# EAGLE library part EXPHDR (library cpcfpga)
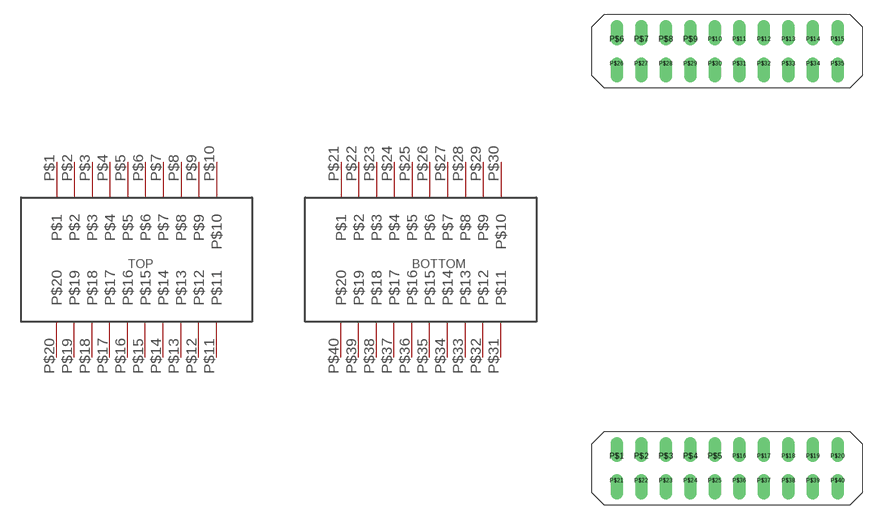
[diagram p3: symbol with the pads of EXPHDR; footprint EXPHDR]

Designator prefix -; gates G$1=EXPHDR_TOP G$2=EXPHDR_BOTTOM

## EXPHDR  [EXPHDR]
P$1  G$1:P$1
P$2  G$1:P$2
P$3  G$1:P$3
P$4  G$1:P$4
P$5  G$1:P$5
P$6  G$1:P$6
P$7  G$1:P$7
P$8  G$1:P$8
P$9  G$1:P$9
P$10  G$1:P$10
P$11  G$1:P$11
P$12  G$1:P$12
P$13  G$1:P$13
P$14  G$1:P$14
P$15  G$1:P$15
P$16  G$1:P$16
P$17  G$1:P$17
P$18  G$1:P$18
P$19  G$1:P$19
P$20  G$1:P$20
P$21  G$2:P$1
P$22  G$2:P$2
P$23  G$2:P$3
P$24  G$2:P$4
P$25  G$2:P$5
P$26  G$2:P$6
P$27  G$2:P$7
P$28  G$2:P$8
P$29  G$2:P$9
P$30  G$2:P$10
P$31  G$2:P$11
P$32  G$2:P$12
P$33  G$2:P$13
P$34  G$2:P$14
P$35  G$2:P$15
P$36  G$2:P$16
P$37  G$2:P$17
P$38  G$2:P$18
P$39  G$2:P$19
P$40  G$2:P$20

## Footprint EXPHDR (pad centres in mm)
drill 0.8 offset: P$1 -11.43,-20.32; P$2 -8.89,-20.32; P$3 -6.35,-20.32; P$4 -3.81,-20.32; P$5 -1.27,-20.32; P$6 -11.43,22.86; P$7 -8.89,22.86; P$8 -6.35,22.86; P$9 -3.81,22.86; P$10 -1.27,22.86; P$11 1.27,22.86; P$12 3.81,22.86; P$13 6.35,22.86; P$14 8.89,22.86; P$15 11.43,22.86; P$16 1.27,-20.32; P$17 3.81,-20.32; P$18 6.35,-20.32; P$19 8.89,-20.32; P$20 11.43,-20.32; P$21 -11.43,-22.86; P$22 -8.89,-22.86; P$23 -6.35,-22.86; P$24 -3.81,-22.86; P$25 -1.27,-22.86; P$26 -11.43,20.32; P$27 -8.89,20.32; P$28 -6.35,20.32; P$29 -3.81,20.32; P$30 -1.27,20.32; P$31 1.27,20.32; P$32 3.81,20.32; P$33 6.35,20.32; P$34 8.89,20.32; P$35 11.43,20.32; P$36 1.27,-22.86; P$37 3.81,-22.86; P$38 6.35,-22.86; P$39 8.89,-22.86; P$40 11.43,-22.86